# Altium schematic symbol library CD4050BC.SchLib: 1 symbol
Pins are listed as number, name and electrical type; pins without a type are passive.

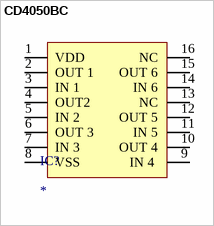
[diagram p0: symbol CD4050BC]

## CD4050BC
designator IC?
footprint PCBComponent_1
pins: 1 VDD, 2 OUT 1, 3 IN 1 , 4 OUT2, 5 IN 2, 6 OUT 3, 7 IN 3, 8 VSS, 9 IN 4 , 10 OUT 4, 11 IN 5, 12 OUT 5, 13 NC, 14 IN 6, 15 OUT 6, 16 NC